# EAGLE library part USB4085-GF-A (library USB4085-GF-A)
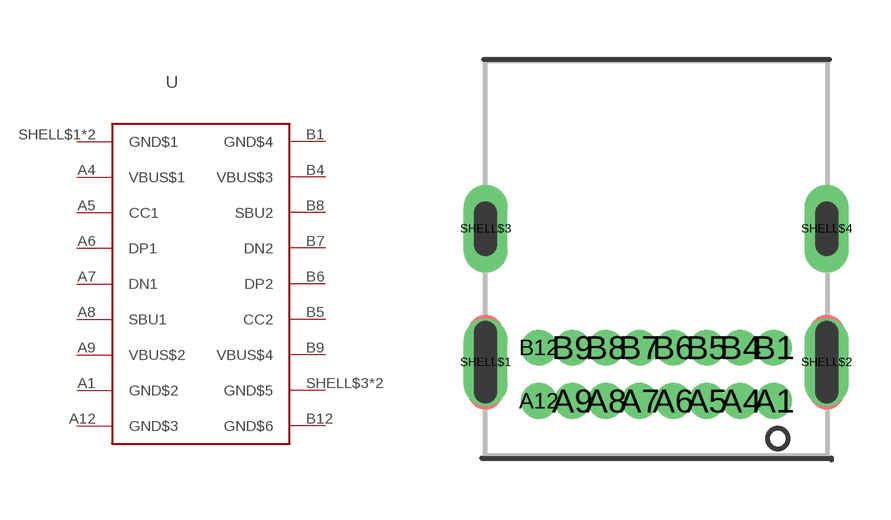
[diagram p0: symbol with the pads of TROUGH_HOLE; footprint TROUGH_HOLE]

Designator prefix -

## USB4085-GF-A  [TROUGH_HOLE]
A1  GND$2  pwr
A4  VBUS$1  pwr
A5  CC1
A6  DP1
A7  DN1
A8  SBU1
A9  VBUS$2  pwr
A12  GND$3  pwr
B1  GND$4  pas
B4  VBUS$3  pwr
B5  CC2
B6  DP2
B7  DN2
B8  SBU2
B9  VBUS$4  pwr
B12  GND$6  pwr
SHELL$1  GND$1  pwr
SHELL$2  GND$1  pwr
SHELL$3  GND$5  pwr
SHELL$4  GND$5  pwr

## Footprint TROUGH_HOLE (pad centres in mm)
drill 0.4 pad 0.65: A1 5.95,0; A4 5.1,0; A5 4.25,0; A6 3.4,0; A7 2.55,0; A8 1.7,0; A9 0.85,0; A12 0,0; B1 5.95,1.35; B4 5.1,1.35; B5 4.25,1.35; B6 3.4,1.35; B7 2.55,1.35; B8 1.7,1.35; B9 0.85,1.35; B12 0,1.35
drill 0.6 pad 0.9 long: SHELL$1 -1.35,0.98; SHELL$2 7.28,0.98; SHELL$3 -1.35,4.36; SHELL$4 7.28,4.36